# Altium integrated library 62684-402100ALF.IntLib: 1 symbol
Pins are listed as number, name and electrical type; pins without a type are passive.

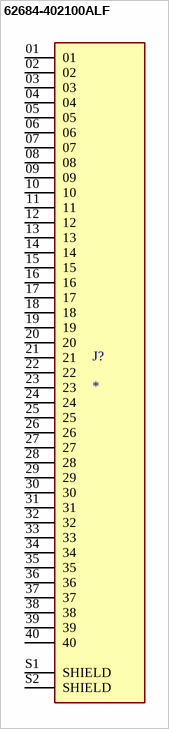
[diagram p0: symbol 62684-402100ALF]

## 62684-402100ALF
designator J?
Conn Rect FPC/FFC 40Cnt SMT OPUSeries ZIF 0.5mmPitch RtAngle | Amphenol FCI (Amphenol CS) 62684-402100ALF; MF: Amphenol ICC; SnapEDA_Link: https://www.snapeda.com/parts/62684-402100ALF/Amphenol+FCI/view-part/?ref=snap; Package: None; Value: *; MP: 62684-402100ALF; Check_prices: https://www.snapeda.com/parts/62684-402100ALF/Amphenol+FCI/view-part/?ref=eda
footprint AMPHENOL_62684-402100ALF
pins: 01, 02, 03, 04, 05, 06, 07, 08, 09, 10, 11, 12, 13, 14, 15, 16, 17, 18, 19, 20, 21, 22, 23, 24, 25, 26, 27, 28, 29, 30, 31, 32, 33, 34, 35, 36, 37, 38, 39, 40, S1 SHIELD, S2 SHIELD